# Altium schematic symbol library 3.2LCD.SCHLIB: 10 symbols
Pins are listed as number, name and electrical type; pins without a type are passive.

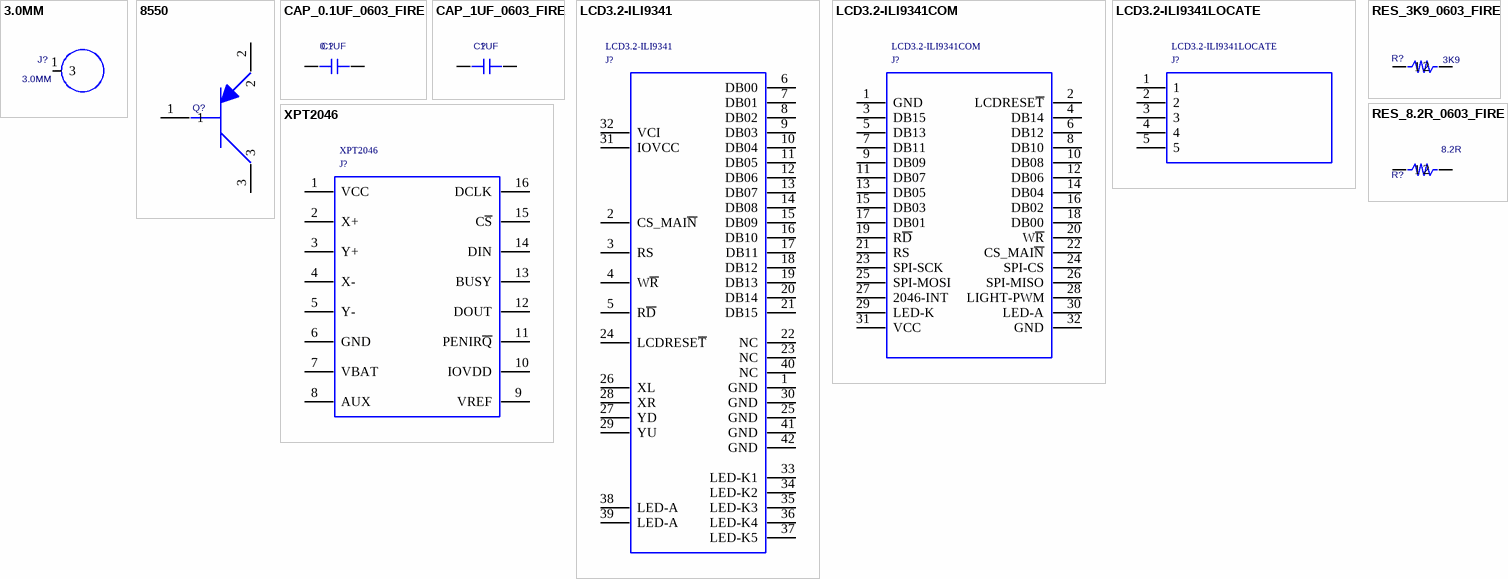
[diagram p0: symbols 3.0MM to XPT2046]

## 3.0MM
designator J?
PCB DECAL: 3.0MM
footprint 3.0MM
pins: 1 3

## 8550
designator Q?  (value not drawn)
Assembly: SMD; PCB DECAL: SOT-23; Description: 8550; Value: 8550
footprint SOT-23
pins: 1, 2, 3

## CAP_0.1UF_0603_FIRE
designator C?  value 0.1UF  (hidden comment: CAP_0.1UF_0603_FIRE)
SURFACE MOUNT CAPACITOR 0.031 X 0.061 INCHES; PCB DECAL: CAP_0603_FIRE
footprint CAP_0603_FIRE
pins: 1, 2

## CAP_1UF_0603_FIRE
designator C?  value 1UF  (hidden comment: CAP_1UF_0603_FIRE)
SURFACE MOUNT CAPACITOR 0.031 X 0.061 INCHES; PCB DECAL: CAP_0603_FIRE
footprint CAP_0603_FIRE
pins: 1, 2

## LCD3.2-ILI9341
designator J?
LCD3.2 ILI9341; PCB DECAL: 40PIN0.5MMZUOZI; Manufacture 1: LCD3.2 ILI9341; Manufacture 1 P/N: LCD3.2 ILI9341; Value: LCD3.2 ILI9341
footprint 40PIN0.5MMZUOZI
pins: 1 GND, 2 CS_MAI~{N}, 3 RS, 4 W~{R}, 5 R~{D}, 6 DB00, 7 DB01, 8 DB02, 9 DB03, 10 DB04, 11 DB05, 12 DB06, 13 DB07, 14 DB08, 15 DB09, 16 DB10, 17 DB11, 18 DB12, 19 DB13, 20 DB14, 21 DB15, 22 NC, 23 NC, 24 LCDRESE~{T}, 25 GND, 26 XL, 27 YD, 28 XR, 29 YU, 30 GND, 31 IOVCC, 32 VCI, 33 LED-K1, 34 LED-K2, 35 LED-K3, 36 LED-K4, 37 LED-K5, 38 LED-A, 39 LED-A, 40 NC, 41 GND, 42 GND

## LCD3.2-ILI9341COM
designator J?
LCD3.2 ILI9341排针接口; Value: 16X2pin 2.54mm 贴片排针; PCB DECAL: 32PINLCD2.54_SMD; Manufacture 1: LCD3.2 ILI9341排针接口; Manufacture 1 P/N: LCD3.2 ILI9341排针接口
footprint 32PINLCD2.54_SMD
pins: 1 GND, 2 LCDRESE~{T}, 3 DB15, 4 DB14, 5 DB13, 6 DB12, 7 DB11, 8 DB10, 9 DB09, 10 DB08, 11 DB07, 12 DB06, 13 DB05, 14 DB04, 15 DB03, 16 DB02, 17 DB01, 18 DB00, 19 R~{D}, 20 W~{R}, 21 RS, 22 CS_MAI~{N}, 23 SPI-SCK, 24 SPI-CS, 25 SPI-MOSI, 26 SPI-MISO, 27 2046-INT, 28 LIGHT-PWM, 29 LED-K, 30 LED-A, 31 VCC, 32 GND

## LCD3.2-ILI9341LOCATE
designator J?
Value: 定位孔; PCB DECAL: TFT3.2-NEW
footprint TFT3.2-NEW
pins: 1, 2, 3, 4, 5

## RES_3K9_0603_FIRE
designator R?  value 3K9  (hidden comment: RES_3K9_0603_FIRE)
Assembly: SMD; PCB DECAL: RES_0603_FIRE
footprint RES_0603_FIRE
pins: 1, 2

## RES_8.2R_0603_FIRE
designator R?  value 8.2R  (hidden comment: RES_8.2R_0603_FIRE)
Assembly: SMD; PCB DECAL: RES_0603_FIRE
footprint RES_0603_FIRE
pins: 1, 2

## XPT2046
designator J?
PCB DECAL: TSC2046-16; Description: XPT2046; Manufacture 1: XPT2046; Manufacture 1 P/N: XPT2046; Value: XPT2046
footprint TSC2046-16
pins: 1 VCC, 2 X+, 3 Y+, 4 X-, 5 Y-, 6 GND, 7 VBAT, 8 AUX, 9 VREF, 10 IOVDD, 11 PENIR~{Q}, 12 DOUT, 13 BUSY, 14 DIN, 15 C~{S}, 16 DCLK